# EAGLE library part HEADER-6 (library homemade-hardware)
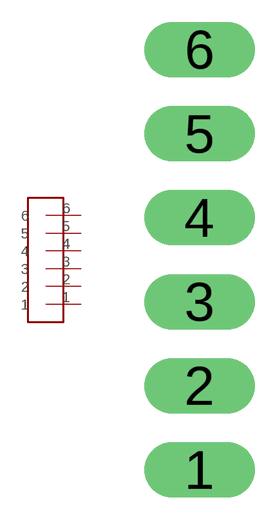
[diagram p3: symbol with the pads of HEADER-6; footprint HEADER-6]

Designator prefix -

## HEADER-6  [HEADER-6]
1  1
2  2
3  3
4  4
5  5
6  6

## Footprint HEADER-6 (pad centres in mm)
drill 1.016 pad 1.676 long: 1 0,0; 2 0,2.54; 3 0,5.08; 4 0,7.62; 5 0,10.16; 6 0,12.7